# Altium integrated library FM_Components.IntLib: 9 symbols
Pins are listed as number, name and electrical type; pins without a type are passive.

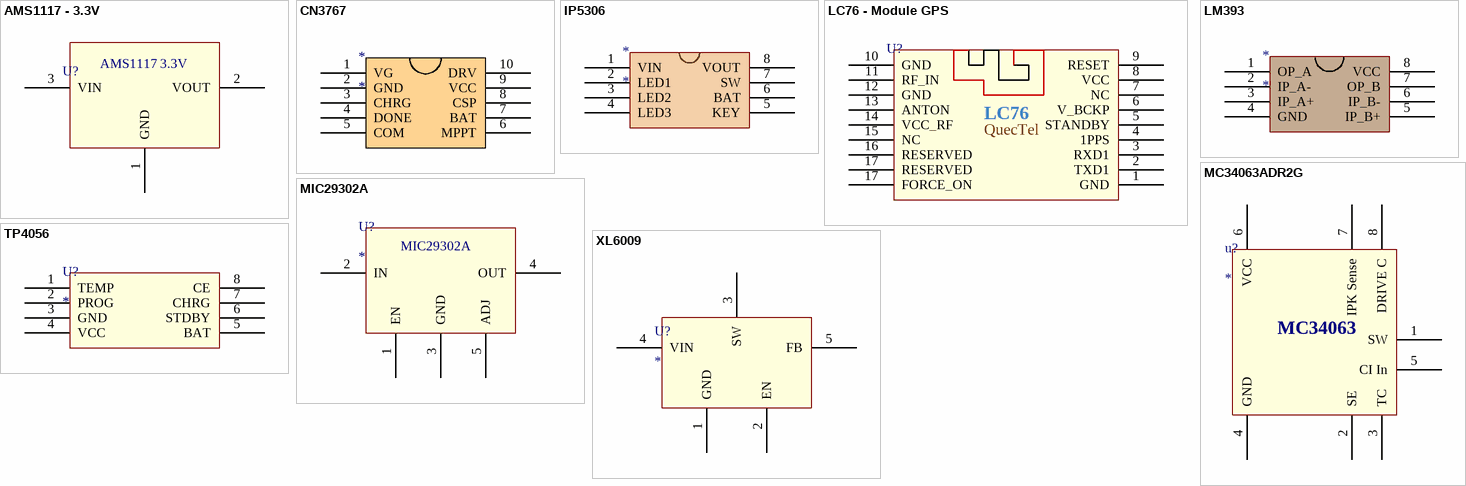
[diagram p0: symbols AMS1117 - 3.3V to XL6009]

## AMS1117 - 3.3V
designator U?  (value not drawn)
footprint AMS1117 -3.3V
pins: 1 GND, 2 VOUT, 3 VIN
text: AMS1117; 3.3V

## CN3767
designator *
footprint CN3767
pins: 1 VG, 2 GND, 3 CHRG, 4 DONE, 5 COM, 6 MPPT, 7 BAT, 8 CSP, 9 VCC, 10 DRV

## IP5306
designator *
footprint IP5306
pins: 1 VIN, 2 LED1, 3 LED2, 4 LED3, 5 KEY, 6 BAT, 7 SW, 8 VOUT

## LC76 - Module GPS
designator U?, comment LC76 - Module GPS*  (value not drawn)
footprint LC76 - Module GPS (LC760Z00AAMD)
pins: 1 GND, 2 TXD1, 3 RXD1, 4 1PPS, 5 STANDBY, 6 V_BCKP, 7 NC, 8 VCC, 9 RESET, 10 GND, 11 RF_IN, 12 GND, 13 ANTON, 14 VCC_RF, 15 NC, 16 RESERVED, 17 RESERVED, 17 FORCE_ON
text: LC76; QuecTel

## LM393
designator *
pins: 1 OP_A, 2 IP_A-, 3 IP_A+, 4 GND, 5 IP_B+, 6 IP_B-, 7 OP_B, 8 VCC

## MC34063ADR2G
designator u?
footprint mc34063a
pins: 1 SW, 2 SE, 3 TC, 4 GND, 5 CI In, 6 VCC, 7 IPK Sense, 8 DRIVE C
text: MC34063

## MIC29302A
designator U?
footprint MIC29302A (MIC29302A - 3.3V 3A)
pins: 1 EN, 2 IN, 3 GND, 4 OUT, 5 ADJ

## TP4056
designator U?
footprint TP4056
pins: 1 TEMP, 2 PROG, 3 GND, 4 VCC, 5 BAT, 6 STDBY, 7 CHRG, 8 CE

## XL6009
designator U?
pins: 1 GND, 2 EN, 3 SW, 4 VIN, 5 FB